# Altium footprint library VQFN-16P.PcbLib: 1 footprints
Each footprint in its own frame and in the unit in brackets; x right, y up, seen from the top. Pads: shape width x height; smd on the part's side, far side on the other; paste and mask are expansions set on the pad; w line width, h text height; cw(c..) or ccw(c..) is an arc to the next point about the centre after c.
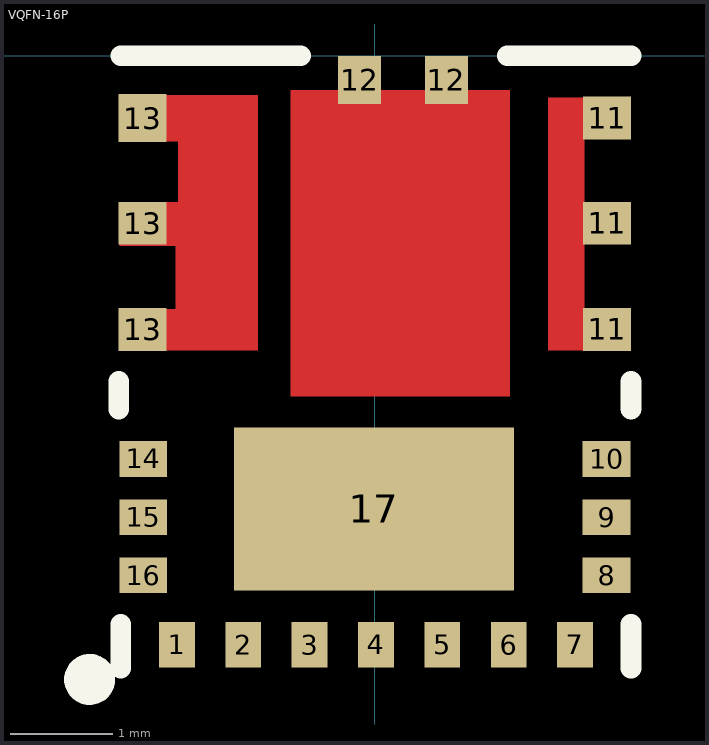
[diagram p0: the footprint, top view; thin cyan lines are the x and y axes]

## VQFN-16P [mm]
pads (22):
  rect 0.35x0.45 smd: 1(-1.94,-5.77) 2(-1.29,-5.77) 3(-0.64,-5.77) 4(0.01,-5.77) 5(0.66,-5.77) 6(1.31,-5.77) 7(1.96,-5.77)
  rect 0.47x0.35 smd: 8(2.27,-5.09) 9(2.27,-4.52) 10(2.27,-3.95) 14(-2.27,-3.95) 15(-2.27,-4.52) 16(-2.27,-5.09)
  rect 0.47x0.42 smd: 11(2.275,-2.68) 11(2.275,-1.64) 11(2.275,-0.61) 13(-2.275,-2.68) 13(-2.275,-1.64)
  rect 0.42x0.47 smd: 12(-0.15,-0.235) 12(0.7,-0.235)
  rect 0.47x0.47 smd: 13(-2.275,-0.61)
  rect 2.744x1.6 smd: 17(-0.01,-4.44)
Top Layer:
  region: 1.325,-0.335 -0.825,-0.335 -0.825,-3.34 1.325,-3.34
  region: -2.5,-2.885 -2.5,-2.485 -1.95,-2.485 -1.95,-1.86 -2.5,-1.86 -2.5,-1.435 -1.925,-1.435 -1.925,-0.835 -2.5,-0.835 -2.5,-0.385 -1.15,-0.385 -1.15,-2.885
  region: 2.5,-0.41 1.7,-0.41 1.7,-2.885 2.5,-2.885 2.5,-2.485 2.05,-2.485 2.05,-1.835 2.5,-1.835 2.5,-1.435 2.05,-1.435 2.05,-0.81 2.5,-0.81
Top Overlay:
  circle w0.25: c-2.795,-6.11 r0.125
  lines w0.203: -2.51,-3.46 -2.51,-3.19 ; -2.49,-6 -2.49,-5.57 ; -2.49,0 -0.73,0 ; 1.3,0 2.51,0 ; 2.51,-6 2.51,-5.57 ; 2.51,-3.46 2.51,-3.19
Top Solder:
  rectangle: -0.83,-3.36 1.33,-0.335
  region: -1.15,-0.285 -1.925,-0.285 -1.925,-2.985 -1.15,-2.985
  rectangle: 1.7,-2.885 2.1,-0.41